# Altium schematic symbol library WE-LANMX.SchLib: 1 symbol
Pins are listed as number, name and electrical type; pins without a type are passive.

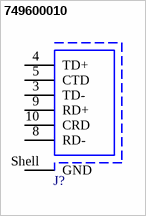
[diagram p0: symbol 749600010]

## 749600010
designator J?  (value not drawn)
WE-LANMX Connector, D-code, Vertical, 10/100 Base-T; Manufacturer: Wurth Elektronik; Code: D; PoE: non-PoE; ComponentLink1Description: Website Link; ComponentLink1URL: https://www.we-online.com/redexpert/article/749600010?ad; ComponentLink2Description: Datasheet Link; ComponentLink2URL: https://www.we-online.com/redexpert/spec/749600010?ad; Manufacturer Part Number: 749600010; Category: Filtered Connectors; Match Code: WE-LANMX; Mount: Through Hole Reflow; Operating Temperature Max: 85°C; Operating Temperature Min: -40°C; Packaging: Tray; Height: 26.5mm; Diameter: 19mm; Data Rate: 10/100 Base-T; Orientation: Vertical
footprint 749600010
pins: 3 TD-, 4 TD+, 5 CTD, 8 RD-, 9 RD+, 10 CRD, Shell GND